# Altium footprint library STPS2H100AY.PCBLIB: 3 footprints
Each footprint in its own frame and in the unit in brackets; x right, y up, seen from the top. Pads: shape width x height; smd on the part's side, far side on the other; paste and mask are expansions set on the pad; w line width, h text height; cw(c..) or ccw(c..) is an arc to the next point about the centre after c.
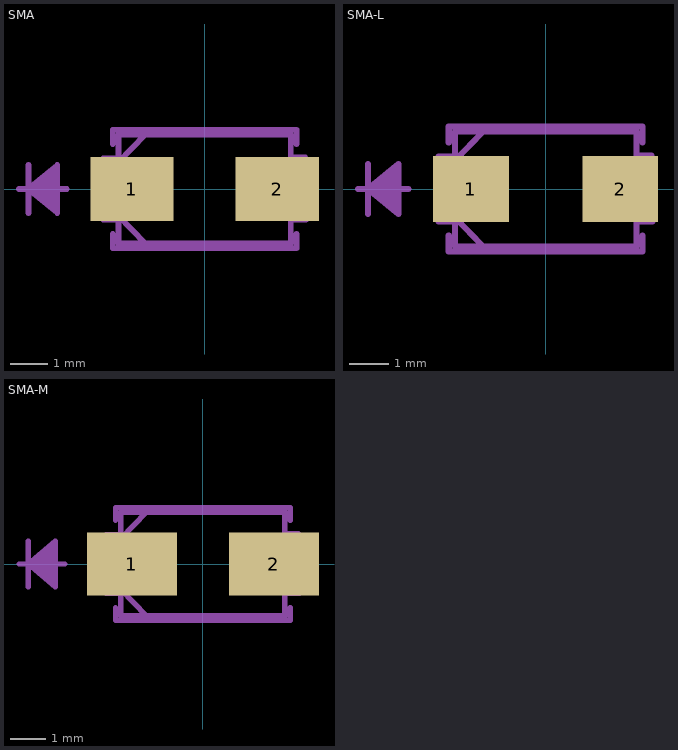
[diagram p0: the footprints below, top view; thin cyan lines are the x and y axes]

## SMA [mil]
pads (2):
  rect 87x67 smd: 1(-76,0) 2(76,0)
Mechanical 8:
  lines w6: -194,0 -184,0 ; -184,-25 -184,0 ; -184,25 -184,0 ; -154,-20 -184,0 ; -154,-15 -184,0 ; -154,-10 -184,0 ; -154,-5 -184,0 ; -154,5 -184,0 ; -154,10 -184,0 ; -154,15 -184,0 ; -154,20 -184,0 ; -144,0 -184,0 ; -62,-57 -90,-28 ; -62,57 -90,28 ; -184,0 -154,25 -154,-25 -184,0 ; -90,-28 -90,-32 -106,-32 -106,32 -90,32 -90,28 ; -90,-28 -90,28 ; -90,-57 90,-57 90,57 -90,57 -90,-57 ; 90,33 91,-32 106,-32 105,33 90,33
Mechanical 22:
  lines w6: -194,0 -184,0 ; -184,-25 -184,0 ; -184,25 -184,0 ; -154,-20 -184,0 ; -154,-15 -184,0 ; -154,-10 -184,0 ; -154,-5 -184,0 ; -154,5 -184,0 ; -154,10 -184,0 ; -154,15 -184,0 ; -154,20 -184,0 ; -144,0 -184,0 ; -96,-47 -96,-62 96,-62 96,-47 ; -96,47 -96,62 96,62 96,47 ; -184,0 -154,25 -154,-25 -184,0

## SMA-L [mil]
pads (2):
  rect 75x65 smd: 1(-74,0) 2(74,0)
Mechanical 8:
  lines w6: -186,0 -176,0 ; -176,-25 -176,0 ; -176,25 -176,0 ; -146,-20 -176,0 ; -146,-15 -176,0 ; -146,-10 -176,0 ; -146,-5 -176,0 ; -146,5 -176,0 ; -146,10 -176,0 ; -146,15 -176,0 ; -146,20 -176,0 ; -136,0 -176,0 ; -62,-57 -90,-28 ; -62,57 -90,28 ; -176,0 -146,25 -146,-25 -176,0 ; -90,-28 -90,-32 -106,-32 -106,32 -90,32 -90,28 ; -90,-28 -90,28 ; -90,-57 90,-57 90,57 -90,57 -90,-57 ; 90,33 91,-32 106,-32 105,33 90,33
Mechanical 22:
  lines w6: -186,0 -176,0 ; -176,-25 -176,0 ; -176,25 -176,0 ; -146,-20 -176,0 ; -146,-15 -176,0 ; -146,-10 -176,0 ; -146,-5 -176,0 ; -146,5 -176,0 ; -146,10 -176,0 ; -146,15 -176,0 ; -146,20 -176,0 ; -136,0 -176,0 ; -96,-46 -96,-62 96,-62 96,-46 ; -96,46 -96,62 96,62 96,46 ; -176,0 -146,25 -146,-25 -176,0

## SMA-M [mil]
pads (2):
  rect 99x69 smd: 1(-78,0) 2(78,0)
Mechanical 8:
  lines w6: -202,0 -192,0 ; -192,-25 -192,0 ; -192,25 -192,0 ; -162,-20 -192,0 ; -162,-15 -192,0 ; -162,-10 -192,0 ; -162,-5 -192,0 ; -162,5 -192,0 ; -162,10 -192,0 ; -162,15 -192,0 ; -162,20 -192,0 ; -152,0 -192,0 ; -62,-57 -90,-28 ; -62,57 -90,28 ; -192,0 -162,25 -162,-25 -192,0 ; -90,-28 -90,-32 -106,-32 -106,32 -90,32 -90,28 ; -90,-28 -90,28 ; -90,-57 90,-57 90,57 -90,57 -90,-57 ; 90,33 91,-32 106,-32 105,33 90,33
Mechanical 22:
  lines w6: -202,0 -192,0 ; -192,-25 -192,0 ; -192,25 -192,0 ; -162,-20 -192,0 ; -162,-15 -192,0 ; -162,-10 -192,0 ; -162,-5 -192,0 ; -162,5 -192,0 ; -162,10 -192,0 ; -162,15 -192,0 ; -162,20 -192,0 ; -152,0 -192,0 ; -96,-48 -96,-62 96,-62 96,-48 ; -96,48 -96,62 96,62 96,48 ; -192,0 -162,25 -162,-25 -192,0